# EAGLE library part TE_AMP_1-967658-1 (library Souers)
Male portion. Mates with 1-1534229-1
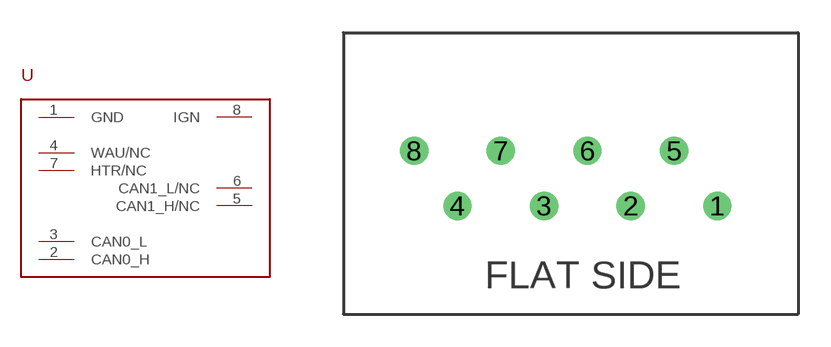
[diagram p6: symbol with the pads of TE_AMP_1-967658-1; footprint TE_AMP_1-967658-1]

Designator prefix -

## TE_AMP_1-967658-1  [TE_AMP_1-967658-1]
1  GND  pwr
2  CAN0_H
3  CAN0_L
4  WAU/NC
5  CAN1_H/NC
6  CAN1_L/NC
7  HTR/NC
8  IGN  pwr

## Footprint TE_AMP_1-967658-1 (pad centres in mm)
drill 0.8: 1 12,0; 2 8,0; 3 4,0; 4 0,0; 5 10,2.54; 6 6,2.54; 7 2,2.54; 8 -2,2.54